# Altium integrated library Altium_WCAP-CSGP (rev19a).IntLib: 938 symbols (part 12 of 16)
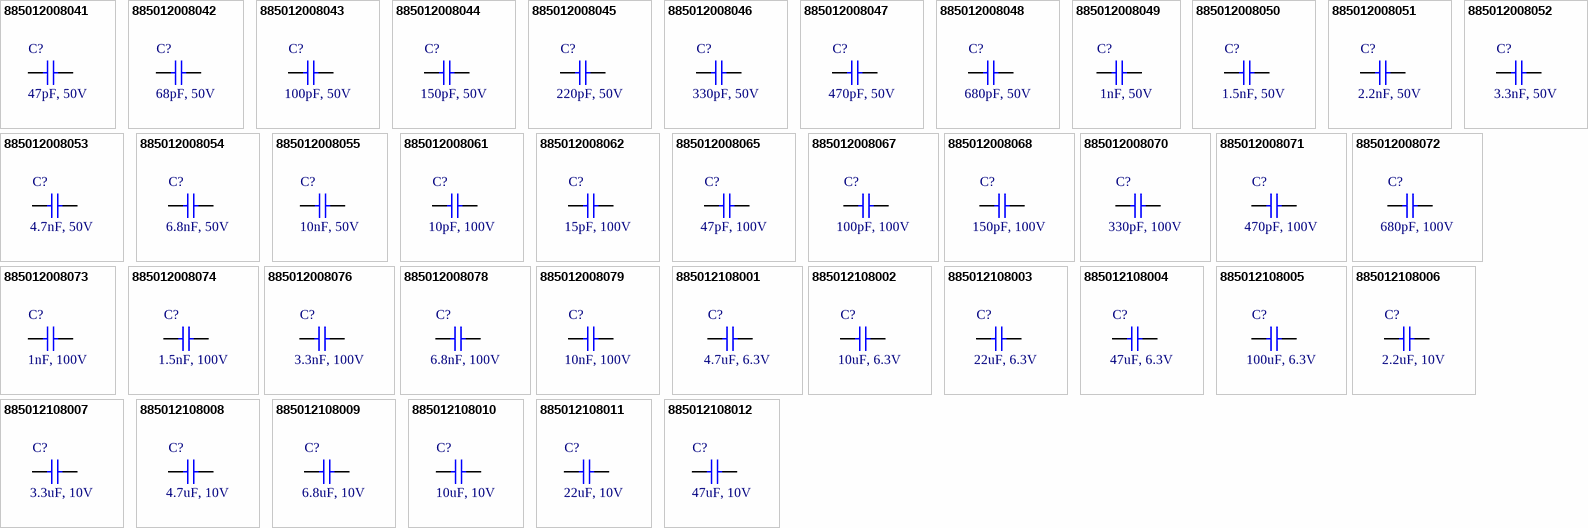
[diagram p38: symbols 885012008041 to 885012108012]

## 885012108007
designator C?, comment 3.3uF, 10V
WCAP-CSGP General Purpose Ceramic Capacitors, size 1206, 3.3uF, +/-20%, 10VDC; Part Number: 885012108007; Isolation Resistance: >=0.2GOhm; Ceramic Type: X5R; Technical Reference: X5R1206335M010DFCT10000; ComponentLink1Description: Manufacturer; ComponentLink1URL: http://www.we-online.de; ComponentLink2Description: Datasheet; ComponentLink2URL: https://katalog.we-online.com/pbs/datasheet/885012108007.pdf; Operating Temperature: -55 to +85degC; Packaging: Tape and Reel; Publisher: Wurth Elektronik; Rated Voltage: 10VDC; Published Date: August 2019; Capacitance Tolerance: +/-20%; Dissipation Factor: =<10%; Height: 1.6mm +0.30/-0.10mm; Mounting Technology: SMD; Size: 1206; Capacitance: 3.3uF
footprint WCAP-CSGP_1206_H=1.6mm
pins: 1, 2

## 885012108008
designator C?, comment 4.7uF, 10V
WCAP-CSGP General Purpose Ceramic Capacitors, size 1206, 4.7uF, +/-20%, 10VDC; Part Number: 885012108008; Isolation Resistance: >=0.02GOhm; Ceramic Type: X5R; Technical Reference: X5R1206475M010DFCT10000; ComponentLink1Description: Manufacturer; ComponentLink1URL: http://www.we-online.de; ComponentLink2Description: Datasheet; ComponentLink2URL: https://katalog.we-online.com/pbs/datasheet/885012108008.pdf; Operating Temperature: -55 to +85degC; Packaging: Tape and Reel; Publisher: Wurth Elektronik; Rated Voltage: 10VDC; Published Date: August 2019; Capacitance Tolerance: +/-20%; Dissipation Factor: =<10%; Height: 1.6mm +0.30/-0.10mm; Mounting Technology: SMD; Size: 1206; Capacitance: 4.7uF
footprint WCAP-CSGP_1206_H=1.6mm
pins: 1, 2

## 885012108009
designator C?, comment 6.8uF, 10V
WCAP-CSGP General Purpose Ceramic Capacitors, size 1206, 6.8uF, +/-20%, 10VDC; Part Number: 885012108009; Isolation Resistance: >=0.02GOhm; Ceramic Type: X5R; Technical Reference: X5R1206685M010DFCT10000; ComponentLink1Description: Manufacturer; ComponentLink1URL: http://www.we-online.de; ComponentLink2Description: Datasheet; ComponentLink2URL: https://katalog.we-online.com/pbs/datasheet/885012108009.pdf; Operating Temperature: -55 to +85degC; Packaging: Tape and Reel; Publisher: Wurth Elektronik; Rated Voltage: 10VDC; Published Date: August 2019; Capacitance Tolerance: +/-20%; Dissipation Factor: =<10%; Height: 1.6mm +0.30/-0.10mm; Mounting Technology: SMD; Size: 1206; Capacitance: 6.8uF
footprint WCAP-CSGP_1206_H=1.6mm
pins: 1, 2

## 885012108010
designator C?, comment 10uF, 10V
WCAP-CSGP General Purpose Ceramic Capacitors, size 1206, 10uF, +/-20%, 10VDC; Part Number: 885012108010; Isolation Resistance: >=0.01GOhm; Ceramic Type: X5R; Technical Reference: X5R1206106M010DFCT10000; ComponentLink1Description: Manufacturer; ComponentLink1URL: http://www.we-online.de; ComponentLink2Description: Datasheet; ComponentLink2URL: https://katalog.we-online.com/pbs/datasheet/885012108010.pdf; Operating Temperature: -55 to +85degC; Packaging: Tape and Reel; Publisher: Wurth Elektronik; Rated Voltage: 10VDC; Published Date: August 2019; Capacitance Tolerance: +/-20%; Dissipation Factor: =<10%; Height: 1.6mm +0.30/-0.10mm; Mounting Technology: SMD; Size: 1206; Capacitance: 10uF
footprint WCAP-CSGP_1206_H=1.6mm
pins: 1, 2

## 885012108011
designator C?, comment 22uF, 10V
WCAP-CSGP General Purpose Ceramic Capacitors, size 1206, 22uF, +/-20%, 10VDC; Part Number: 885012108011; Isolation Resistance: >=0.005GOhm; Ceramic Type: X5R; Technical Reference: X5R1206226M010DFCT10000; ComponentLink1Description: Manufacturer; ComponentLink1URL: http://www.we-online.de; ComponentLink2Description: Datasheet; ComponentLink2URL: https://katalog.we-online.com/pbs/datasheet/885012108011.pdf; Operating Temperature: -55 to +85degC; Packaging: Tape and Reel; Publisher: Wurth Elektronik; Rated Voltage: 10VDC; Published Date: August 2019; Capacitance Tolerance: +/-20%; Dissipation Factor: =<10%; Height: 1.6mm +0.30/-0.10mm; Mounting Technology: SMD; Size: 1206; Capacitance: 22uF
footprint WCAP-CSGP_1206_H=1.6mm
pins: 1, 2

## 885012108012
designator C?, comment 47uF, 10V
WCAP-CSGP General Purpose Ceramic Capacitors, size 1206, 47uF, +/-20%, 10VDC; Part Number: 885012108012; Isolation Resistance: >=0.002GOhm; Ceramic Type: X5R; Technical Reference: X5R1206476M010DFCT10000; ComponentLink1Description: Manufacturer; ComponentLink1URL: http://www.we-online.de; ComponentLink2Description: Datasheet; ComponentLink2URL: https://katalog.we-online.com/pbs/datasheet/885012108012.pdf; Operating Temperature: -55 to +85degC; Packaging: Tape and Reel; Publisher: Wurth Elektronik; Rated Voltage: 10VDC; Published Date: August 2019; Capacitance Tolerance: +/-20%; Dissipation Factor: =<10%; Height: 1.6mm +/-0.20mm; Mounting Technology: SMD; Size: 1206; Capacitance: 47uF
footprint WCAP-CSGP_1206_H=1.6mm
pins: 1, 2

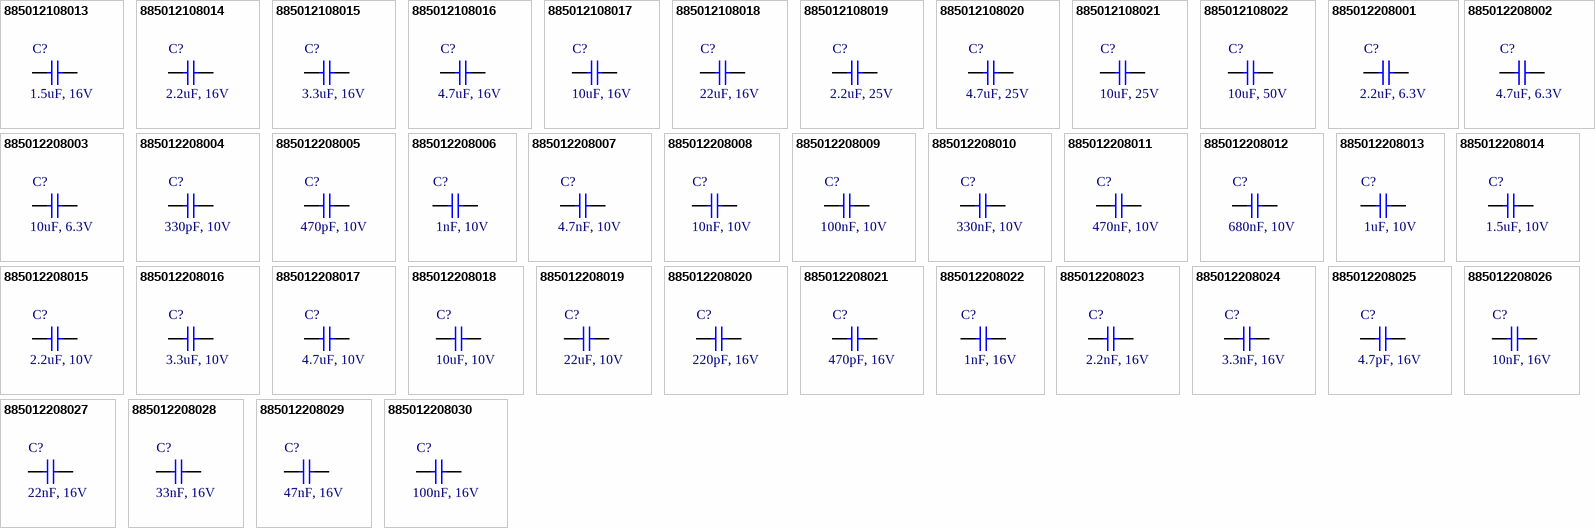
[diagram p19: symbols 885012108013 to 885012208030]

## 885012108013
designator C?, comment 1.5uF, 16V
WCAP-CSGP General Purpose Ceramic Capacitors, size 1206, 1.5uF, +/-20%, 16VDC; Part Number: 885012108013; Isolation Resistance: >=0.3GOhm; Ceramic Type: X5R; Technical Reference: X5R1206155M016DFCT10000; ComponentLink1Description: Manufacturer; ComponentLink1URL: http://www.we-online.de; ComponentLink2Description: Datasheet; ComponentLink2URL: https://katalog.we-online.com/pbs/datasheet/885012108013.pdf; Operating Temperature: -55 to +85degC; Packaging: Tape and Reel; Publisher: Wurth Elektronik; Rated Voltage: 16VDC; Published Date: August 2019; Capacitance Tolerance: +/-20%; Dissipation Factor: =<3.5%; Height: 1.15mm +/-0.15mm; Mounting Technology: SMD; Size: 1206; Capacitance: 1.5uF
footprint WCAP-CSGP_1206_H=1.15mm
pins: 1, 2

## 885012108014
designator C?, comment 2.2uF, 16V
WCAP-CSGP General Purpose Ceramic Capacitors, size 1206, 2.2uF, +/-20%, 16VDC; Part Number: 885012108014; Isolation Resistance: >=0.2GOhm; Ceramic Type: X5R; Technical Reference: X5R1206225M016DFCT10000; ComponentLink1Description: Manufacturer; ComponentLink1URL: http://www.we-online.de; ComponentLink2Description: Datasheet; ComponentLink2URL: https://katalog.we-online.com/pbs/datasheet/885012108014.pdf; Operating Temperature: -55 to +85degC; Packaging: Tape and Reel; Publisher: Wurth Elektronik; Rated Voltage: 16VDC; Published Date: August 2019; Capacitance Tolerance: +/-20%; Dissipation Factor: =<5%; Height: 1.15mm +/-0.15mm; Mounting Technology: SMD; Size: 1206; Capacitance: 2.2uF
footprint WCAP-CSGP_1206_H=1.15mm
pins: 1, 2

## 885012108015
designator C?, comment 3.3uF, 16V
WCAP-CSGP General Purpose Ceramic Capacitors, size 1206, 3.3uF, +/-20%, 16VDC; Part Number: 885012108015; Isolation Resistance: >=0.2GOhm; Ceramic Type: X5R; Technical Reference: X5R1206335M016DFCT10000; ComponentLink1Description: Manufacturer; ComponentLink1URL: http://www.we-online.de; ComponentLink2Description: Datasheet; ComponentLink2URL: https://katalog.we-online.com/pbs/datasheet/885012108015.pdf; Operating Temperature: -55 to +85degC; Packaging: Tape and Reel; Publisher: Wurth Elektronik; Rated Voltage: 16VDC; Published Date: August 2019; Capacitance Tolerance: +/-20%; Dissipation Factor: =<5%; Height: 1.6mm +0.30/-0.10mm; Mounting Technology: SMD; Size: 1206; Capacitance: 3.3uF
footprint WCAP-CSGP_1206_H=1.6mm
pins: 1, 2

## 885012108016
designator C?, comment 4.7uF, 16V
WCAP-CSGP General Purpose Ceramic Capacitors, size 1206, 4.7uF, +/-20%, 16VDC; Part Number: 885012108016; Isolation Resistance: >=0.1GOhm; Ceramic Type: X5R; Technical Reference: X5R1206475M016DFCT10000; ComponentLink1Description: Manufacturer; ComponentLink1URL: http://www.we-online.de; ComponentLink2Description: Datasheet; ComponentLink2URL: https://katalog.we-online.com/pbs/datasheet/885012108016.pdf; Operating Temperature: -55 to +85degC; Packaging: Tape and Reel; Publisher: Wurth Elektronik; Rated Voltage: 16VDC; Published Date: August 2019; Capacitance Tolerance: +/-20%; Dissipation Factor: =<10%; Height: 1.6mm +0.30/-0.10mm; Mounting Technology: SMD; Size: 1206; Capacitance: 4.7uF
footprint WCAP-CSGP_1206_H=1.6mm
pins: 1, 2

## 885012108017
designator C?, comment 10uF, 16V
WCAP-CSGP General Purpose Ceramic Capacitors, size 1206, 10uF, +/-20%, 16VDC; Part Number: 885012108017; Isolation Resistance: >=0.01GOhm; Ceramic Type: X5R; Technical Reference: X5R1206106M016DFCT10000; ComponentLink1Description: Manufacturer; ComponentLink1URL: http://www.we-online.de; ComponentLink2Description: Datasheet; ComponentLink2URL: https://katalog.we-online.com/pbs/datasheet/885012108017.pdf; Operating Temperature: -55 to +85degC; Packaging: Tape and Reel; Publisher: Wurth Elektronik; Rated Voltage: 16VDC; Published Date: August 2019; Capacitance Tolerance: +/-20%; Dissipation Factor: =<10%; Height: 1.6mm +0.30/-0.10mm; Mounting Technology: SMD; Size: 1206; Capacitance: 10uF
footprint WCAP-CSGP_1206_H=1.6mm
pins: 1, 2

## 885012108018
designator C?, comment 22uF, 16V
WCAP-CSGP General Purpose Ceramic Capacitors, size 1206, 22uF, +/-20%, 16VDC; Part Number: 885012108018; Isolation Resistance: >=0.005GOhm; Ceramic Type: X5R; Technical Reference: X5R1206226M016DFCT10000; ComponentLink1Description: Manufacturer; ComponentLink1URL: http://www.we-online.de; ComponentLink2Description: Datasheet; ComponentLink2URL: https://katalog.we-online.com/pbs/datasheet/885012108018.pdf; Operating Temperature: -55 to +85degC; Packaging: Tape and Reel; Publisher: Wurth Elektronik; Rated Voltage: 16VDC; Published Date: August 2019; Capacitance Tolerance: +/-20%; Dissipation Factor: =<10%; Height: 1.6mm +/-0.20mm; Mounting Technology: SMD; Size: 1206; Capacitance: 22uF
footprint WCAP-CSGP_1206_H=1.6mm
pins: 1, 2

## 885012108019
designator C?, comment 2.2uF, 25V
WCAP-CSGP General Purpose Ceramic Capacitors, size 1206, 2.2uF, +/-20%, 25VDC; Part Number: 885012108019; Isolation Resistance: >=0.2GOhm; Ceramic Type: X5R; Technical Reference: X5R1206225M025DFCT10000; ComponentLink1Description: Manufacturer; ComponentLink1URL: http://www.we-online.de; ComponentLink2Description: Datasheet; ComponentLink2URL: https://katalog.we-online.com/pbs/datasheet/885012108019.pdf; Operating Temperature: -55 to +85degC; Packaging: Tape and Reel; Publisher: Wurth Elektronik; Rated Voltage: 25VDC; Published Date: August 2019; Capacitance Tolerance: +/-20%; Dissipation Factor: =<3.5%; Height: 1.6mm +0.30/-0.10mm; Mounting Technology: SMD; Size: 1206; Capacitance: 2.2uF
footprint WCAP-CSGP_1206_H=1.6mm
pins: 1, 2

## 885012108020
designator C?, comment 4.7uF, 25V
WCAP-CSGP General Purpose Ceramic Capacitors, size 1206, 4.7uF, +/-20%, 25VDC; Part Number: 885012108020; Isolation Resistance: >=0.1GOhm; Ceramic Type: X5R; Technical Reference: X5R1206475M025DFCT10000; ComponentLink1Description: Manufacturer; ComponentLink1URL: http://www.we-online.de; ComponentLink2Description: Datasheet; ComponentLink2URL: https://katalog.we-online.com/pbs/datasheet/885012108020.pdf; Operating Temperature: -55 to +85degC; Packaging: Tape and Reel; Publisher: Wurth Elektronik; Rated Voltage: 25VDC; Published Date: August 2019; Capacitance Tolerance: +/-20%; Dissipation Factor: =<7%; Height: 1.6mm +0.30/-0.10mm; Mounting Technology: SMD; Size: 1206; Capacitance: 4.7uF
footprint WCAP-CSGP_1206_H=1.6mm
pins: 1, 2

## 885012108021
designator C?, comment 10uF, 25V
WCAP-CSGP General Purpose Ceramic Capacitors, size 1206, 10uF, +/-20%, 25VDC; Part Number: 885012108021; Isolation Resistance: >=0.01GOhm; Ceramic Type: X5R; Technical Reference: X5R1206106M025DFCT10000; ComponentLink1Description: Manufacturer; ComponentLink1URL: http://www.we-online.de; ComponentLink2Description: Datasheet; ComponentLink2URL: https://katalog.we-online.com/pbs/datasheet/885012108021.pdf; Operating Temperature: -55 to +85degC; Packaging: Tape and Reel; Publisher: Wurth Elektronik; Rated Voltage: 25VDC; Published Date: August 2019; Capacitance Tolerance: +/-20%; Dissipation Factor: =<10%; Height: 1.6mm +0.30/-0.10 mm; Mounting Technology: SMD; Size: 1206; Capacitance: 10uF
footprint WCAP-CSGP_1206_H=1.6mm
pins: 1, 2

## 885012108022
designator C?, comment 10uF, 50V
WCAP-CSGP General Purpose Ceramic Capacitors, size 1206, 10uF, +/-10%, 50VDC; Part Number: 885012108022; Isolation Resistance: >=0.005GOhm; Ceramic Type: X5R; Technical Reference: X5R1206106K050DFCT10000; ComponentLink1Description: Manufacturer; ComponentLink1URL: http://www.we-online.de; ComponentLink2Description: Datasheet; ComponentLink2URL: https://katalog.we-online.com/pbs/datasheet/885012108022.pdf; Operating Temperature: -55 to +85degC; Packaging: Tape and Reel; Publisher: Wurth Elektronik; Rated Voltage: 50VDC; Published Date: August 2019; Capacitance Tolerance: +/-10%; Dissipation Factor: =<10%; Height: 1.6mm +/-0.20mm; Mounting Technology: SMD; Size: 1206; Capacitance: 10uF
footprint WCAP-CSGP_1206_H=1.6mm
pins: 1, 2

## 885012208001
designator C?, comment 2.2uF, 6.3V
WCAP-CSGP General Purpose Ceramic Capacitors, size 1206, 2.2uF, +/-10%, 6.3VDC; Part Number: 885012208001; Isolation Resistance: >=0.05GOhm; Ceramic Type: X7R; Technical Reference: X7R1206225K6R3DFCT10000; ComponentLink1Description: Manufacturer; ComponentLink1URL: http://www.we-online.de; ComponentLink2Description: Datasheet; ComponentLink2URL: https://katalog.we-online.com/pbs/datasheet/885012208001.pdf; Operating Temperature: -55 to +125degC; Packaging: Tape and Reel; Publisher: Wurth Elektronik; Rated Voltage: 6.3VDC; Published Date: August 2019; Capacitance Tolerance: +/-10%; Dissipation Factor: =<10%; Height: 1.15mm +/-0.15mm; Mounting Technology: SMD; Size: 1206; Capacitance: 2.2uF
footprint WCAP-CSGP_1206_H=1.15mm
pins: 1, 2

## 885012208002
designator C?, comment 4.7uF, 6.3V
WCAP-CSGP General Purpose Ceramic Capacitors, size 1206, 4.7uF, +/-10%, 6.3VDC; Part Number: 885012208002; Isolation Resistance: >=0.02GOhm; Ceramic Type: X7R; Technical Reference: X7R1206475K6R3DFCT10000; ComponentLink1Description: Manufacturer; ComponentLink1URL: http://www.we-online.de; ComponentLink2Description: Datasheet; ComponentLink2URL: https://katalog.we-online.com/pbs/datasheet/885012208002.pdf; Operating Temperature: -55 to +125degC; Packaging: Tape and Reel; Publisher: Wurth Elektronik; Rated Voltage: 6.3VDC; Published Date: August 2019; Capacitance Tolerance: +/-10%; Dissipation Factor: =<10%; Height: 1.6mm +0.30/-0.10mm; Mounting Technology: SMD; Size: 1206; Capacitance: 4.7uF
footprint WCAP-CSGP_1206_H=1.6mm
pins: 1, 2

## 885012208003
designator C?, comment 10uF, 6.3V
WCAP-CSGP General Purpose Ceramic Capacitors, size 1206, 10uF, +/-10%, 6.3VDC; Part Number: 885012208003; Isolation Resistance: >=0.005GOhm; Ceramic Type: X7R; Technical Reference: X7R1206106K6R3DFCT10000; ComponentLink1Description: Manufacturer; ComponentLink1URL: http://www.we-online.de; ComponentLink2Description: Datasheet; ComponentLink2URL: https://katalog.we-online.com/pbs/datasheet/885012208003.pdf; Operating Temperature: -55 to +125degC; Packaging: Tape and Reel; Publisher: Wurth Elektronik; Rated Voltage: 6.3VDC; Published Date: August 2019; Capacitance Tolerance: +/-10%; Dissipation Factor: =<10%; Height: 1.6mm +0.30/-0.10mm; Mounting Technology: SMD; Size: 1206; Capacitance: 10uF
footprint WCAP-CSGP_1206_H=1.6mm
pins: 1, 2

## 885012208004
designator C?, comment 330pF, 10V
WCAP-CSGP General Purpose Ceramic Capacitors, size 1206, 330pF, +/-10%, 10VDC; Part Number: 885012208004; Isolation Resistance: >=10GOhm; Ceramic Type: X7R; Technical Reference: X7R1206331K010DFCT10000; ComponentLink1Description: Manufacturer; ComponentLink1URL: http://www.we-online.de; ComponentLink2Description: Datasheet; ComponentLink2URL: https://katalog.we-online.com/pbs/datasheet/885012208004.pdf; Operating Temperature: -55 to +125degC; Packaging: Tape and Reel; Publisher: Wurth Elektronik; Rated Voltage: 10VDC; Published Date: August 2019; Capacitance Tolerance: +/-10%; Dissipation Factor: =<5%; Height: 0.8mm +/-0.10mm; Mounting Technology: SMD; Size: 1206; Capacitance: 330pF
footprint WCAP-CSGP_1206_H=0.8mm
pins: 1, 2

## 885012208005
designator C?, comment 470pF, 10V
WCAP-CSGP General Purpose Ceramic Capacitors, size 1206, 470pF, +/-10%, 10VDC; Part Number: 885012208005; Isolation Resistance: >=10GOhm; Ceramic Type: X7R; Technical Reference: X7R1206471K010DFCT10000; ComponentLink1Description: Manufacturer; ComponentLink1URL: http://www.we-online.de; ComponentLink2Description: Datasheet; ComponentLink2URL: https://katalog.we-online.com/pbs/datasheet/885012208005.pdf; Operating Temperature: -55 to +125degC; Packaging: Tape and Reel; Publisher: Wurth Elektronik; Rated Voltage: 10VDC; Published Date: August 2019; Capacitance Tolerance: +/-10%; Dissipation Factor: =<5%; Height: 0.8mm +/-0.10mm; Mounting Technology: SMD; Size: 1206; Capacitance: 470pF
footprint WCAP-CSGP_1206_H=0.8mm
pins: 1, 2

## 885012208006
designator C?, comment 1nF, 10V
WCAP-CSGP General Purpose Ceramic Capacitors, size 1206, 1nF, +/-10%, 10VDC; Part Number: 885012208006; Isolation Resistance: >=10GOhm; Ceramic Type: X7R; Technical Reference: X7R1206102K010DFCT10000; ComponentLink1Description: Manufacturer; ComponentLink1URL: http://www.we-online.de; ComponentLink2Description: Datasheet; ComponentLink2URL: https://katalog.we-online.com/pbs/datasheet/885012208006.pdf; Operating Temperature: -55 to +125degC; Packaging: Tape and Reel; Publisher: Wurth Elektronik; Rated Voltage: 10VDC; Published Date: August 2019; Capacitance Tolerance: +/-10%; Dissipation Factor: =<5%; Height: 0.8mm +/-0.10mm; Mounting Technology: SMD; Size: 1206; Capacitance: 1nF
footprint WCAP-CSGP_1206_H=0.8mm
pins: 1, 2

## 885012208007
designator C?, comment 4.7nF, 10V
WCAP-CSGP General Purpose Ceramic Capacitors, size 1206, 4.7nF, +/-10%, 10VDC; Part Number: 885012208007; Isolation Resistance: >=10GOhm; Ceramic Type: X7R; Technical Reference: X7R1206472K010DFCT10000; ComponentLink1Description: Manufacturer; ComponentLink1URL: http://www.we-online.de; ComponentLink2Description: Datasheet; ComponentLink2URL: https://katalog.we-online.com/pbs/datasheet/885012208007.pdf; Operating Temperature: -55 to +125degC; Packaging: Tape and Reel; Publisher: Wurth Elektronik; Rated Voltage: 10VDC; Published Date: August 2019; Capacitance Tolerance: +/-10%; Dissipation Factor: =<5%; Height: 0.8mm +/-0.10mm; Mounting Technology: SMD; Size: 1206; Capacitance: 4.7nF
footprint WCAP-CSGP_1206_H=0.8mm
pins: 1, 2

## 885012208008
designator C?, comment 10nF, 10V
WCAP-CSGP General Purpose Ceramic Capacitors, size 1206, 10nF, +/-10%, 10VDC; Part Number: 885012208008; Isolation Resistance: >=10GOhm; Ceramic Type: X7R; Technical Reference: X7R1206103K010DFCT10000; ComponentLink1Description: Manufacturer; ComponentLink1URL: http://www.we-online.de; ComponentLink2Description: Datasheet; ComponentLink2URL: https://katalog.we-online.com/pbs/datasheet/885012208008.pdf; Operating Temperature: -55 to +125degC; Packaging: Tape and Reel; Publisher: Wurth Elektronik; Rated Voltage: 10VDC; Published Date: August 2019; Capacitance Tolerance: +/-10%; Dissipation Factor: =<5%; Height: 0.8mm +/-0.10mm; Mounting Technology: SMD; Size: 1206; Capacitance: 10nF
footprint WCAP-CSGP_1206_H=0.8mm
pins: 1, 2

## 885012208009
designator C?, comment 100nF, 10V
WCAP-CSGP General Purpose Ceramic Capacitors, size 1206, 100nF, +/-10%, 10VDC; Part Number: 885012208009; Isolation Resistance: >=5GOhm; Ceramic Type: X7R; Technical Reference: X7R1206104K010DFCT10000; ComponentLink1Description: Manufacturer; ComponentLink1URL: http://www.we-online.de; ComponentLink2Description: Datasheet; ComponentLink2URL: https://katalog.we-online.com/pbs/datasheet/885012208009.pdf; Operating Temperature: -55 to +125degC; Packaging: Tape and Reel; Publisher: Wurth Elektronik; Rated Voltage: 10VDC; Published Date: August 2019; Capacitance Tolerance: +/-10%; Dissipation Factor: =<5%; Height: 0.8mm +/-0.10mm; Mounting Technology: SMD; Size: 1206; Capacitance: 100nF
footprint WCAP-CSGP_1206_H=0.8mm
pins: 1, 2

## 885012208010
designator C?, comment 330nF, 10V
WCAP-CSGP General Purpose Ceramic Capacitors, size 1206, 330nF, +/-10%, 10VDC; Part Number: 885012208010; Isolation Resistance: >=1.5GOhm; Ceramic Type: X7R; Technical Reference: X7R1206334K010DFCT10000; ComponentLink1Description: Manufacturer; ComponentLink1URL: http://www.we-online.de; ComponentLink2Description: Datasheet; ComponentLink2URL: https://katalog.we-online.com/pbs/datasheet/885012208010.pdf; Operating Temperature: -55 to +125degC; Packaging: Tape and Reel; Publisher: Wurth Elektronik; Rated Voltage: 10VDC; Published Date: August 2019; Capacitance Tolerance: +/-10%; Dissipation Factor: =<5%; Height: 0.95mm +/-0.10mm; Mounting Technology: SMD; Size: 1206; Capacitance: 330nF
footprint WCAP-CSGP_1206_H=0.95mm
pins: 1, 2

## 885012208011
designator C?, comment 470nF, 10V
WCAP-CSGP General Purpose Ceramic Capacitors, size 1206, 470nF, +/-10%, 10VDC; Part Number: 885012208011; Isolation Resistance: >=1.1GOhm; Ceramic Type: X7R; Technical Reference: X7R1206474K010DFCT10000; ComponentLink1Description: Manufacturer; ComponentLink1URL: http://www.we-online.de; ComponentLink2Description: Datasheet; ComponentLink2URL: https://katalog.we-online.com/pbs/datasheet/885012208011.pdf; Operating Temperature: -55 to +125degC; Packaging: Tape and Reel; Publisher: Wurth Elektronik; Rated Voltage: 10VDC; Published Date: August 2019; Capacitance Tolerance: +/-10%; Dissipation Factor: =<5%; Height: 1.15mm +/-0.15mm; Mounting Technology: SMD; Size: 1206; Capacitance: 470nF
footprint WCAP-CSGP_1206_H=1.15mm
pins: 1, 2

## 885012208012
designator C?, comment 680nF, 10V
WCAP-CSGP General Purpose Ceramic Capacitors, size 1206, 680nF, +/-10%, 10VDC; Part Number: 885012208012; Isolation Resistance: >=0.7GOhm; Ceramic Type: X7R; Technical Reference: X7R1206684K010DFCT10000; ComponentLink1Description: Manufacturer; ComponentLink1URL: http://www.we-online.de; ComponentLink2Description: Datasheet; ComponentLink2URL: https://katalog.we-online.com/pbs/datasheet/885012208012.pdf; Operating Temperature: -55 to +125degC; Packaging: Tape and Reel; Publisher: Wurth Elektronik; Rated Voltage: 10VDC; Published Date: August 2019; Capacitance Tolerance: +/-10%; Dissipation Factor: =<5%; Height: 1.15mm +/-0.15mm; Mounting Technology: SMD; Size: 1206; Capacitance: 680nF
footprint WCAP-CSGP_1206_H=1.15mm
pins: 1, 2

## 885012208013
designator C?, comment 1uF, 10V
WCAP-CSGP General Purpose Ceramic Capacitors, size 1206, 1uF, +/-10%, 10VDC; Part Number: 885012208013; Isolation Resistance: >=0.5GOhm; Ceramic Type: X7R; Technical Reference: X7R1206105K010DFCT10000; ComponentLink1Description: Manufacturer; ComponentLink1URL: http://www.we-online.de; ComponentLink2Description: Datasheet; ComponentLink2URL: https://katalog.we-online.com/pbs/datasheet/885012208013.pdf; Operating Temperature: -55 to +125degC; Packaging: Tape and Reel; Publisher: Wurth Elektronik; Rated Voltage: 10VDC; Published Date: August 2019; Capacitance Tolerance: +/-10%; Dissipation Factor: =<5%; Height: 1.15mm +/-0.15mm; Mounting Technology: SMD; Size: 1206; Capacitance: 1uF
footprint WCAP-CSGP_1206_H=1.15mm
pins: 1, 2

## 885012208014
designator C?, comment 1.5uF, 10V
WCAP-CSGP General Purpose Ceramic Capacitors, size 1206, 1.5uF, +/-10%, 10VDC; Part Number: 885012208014; Isolation Resistance: >=0.3GOhm; Ceramic Type: X7R; Technical Reference: X7R1206155K010DFCT10000; ComponentLink1Description: Manufacturer; ComponentLink1URL: http://www.we-online.de; ComponentLink2Description: Datasheet; ComponentLink2URL: https://katalog.we-online.com/pbs/datasheet/885012208014.pdf; Operating Temperature: -55 to +125degC; Packaging: Tape and Reel; Publisher: Wurth Elektronik; Rated Voltage: 10VDC; Published Date: August 2019; Capacitance Tolerance: +/-10%; Dissipation Factor: =<5%; Height: 1.15mm +/-0.15mm; Mounting Technology: SMD; Size: 1206; Capacitance: 1.5uF
footprint WCAP-CSGP_1206_H=1.15mm
pins: 1, 2

## 885012208015
designator C?, comment 2.2uF, 10V
WCAP-CSGP General Purpose Ceramic Capacitors, size 1206, 2.2uF, +/-10%, 10VDC; Part Number: 885012208015; Isolation Resistance: >=0.2GOhm; Ceramic Type: X7R; Technical Reference: X7R1206225K010DFCT10000; ComponentLink1Description: Manufacturer; ComponentLink1URL: http://www.we-online.de; ComponentLink2Description: Datasheet; ComponentLink2URL: https://katalog.we-online.com/pbs/datasheet/885012208015.pdf; Operating Temperature: -55 to +125degC; Packaging: Tape and Reel; Publisher: Wurth Elektronik; Rated Voltage: 10VDC; Published Date: August 2019; Capacitance Tolerance: +/-10%; Dissipation Factor: =<10%; Height: 1.15mm +/-0.15mm; Mounting Technology: SMD; Size: 1206; Capacitance: 2.2uF
footprint WCAP-CSGP_1206_H=1.15mm
pins: 1, 2

## 885012208016
designator C?, comment 3.3uF, 10V
WCAP-CSGP General Purpose Ceramic Capacitors, size 1206, 3.3uF, +/-10%, 10VDC; Part Number: 885012208016; Isolation Resistance: >=0.2GOhm; Ceramic Type: X7R; Technical Reference: X7R1206335K010DFCT10000; ComponentLink1Description: Manufacturer; ComponentLink1URL: http://www.we-online.de; ComponentLink2Description: Datasheet; ComponentLink2URL: https://katalog.we-online.com/pbs/datasheet/885012208016.pdf; Operating Temperature: -55 to +125degC; Packaging: Tape and Reel; Publisher: Wurth Elektronik; Rated Voltage: 10VDC; Published Date: August 2019; Capacitance Tolerance: +/-10%; Dissipation Factor: =<10%; Height: 1.6mm +0.30/-0.10mm; Mounting Technology: SMD; Size: 1206; Capacitance: 3.3uF
footprint WCAP-CSGP_1206_H=1.6mm
pins: 1, 2

## 885012208017
designator C?, comment 4.7uF, 10V
WCAP-CSGP General Purpose Ceramic Capacitors, size 1206, 4.7uF, +/-10%, 10VDC; Part Number: 885012208017; Isolation Resistance: >=0.02GOhm; Ceramic Type: X7R; Technical Reference: X7R1206475K010DFCT10000; ComponentLink1Description: Manufacturer; ComponentLink1URL: http://www.we-online.de; ComponentLink2Description: Datasheet; ComponentLink2URL: https://katalog.we-online.com/pbs/datasheet/885012208017.pdf; Operating Temperature: -55 to +125degC; Packaging: Tape and Reel; Publisher: Wurth Elektronik; Rated Voltage: 10VDC; Published Date: August 2019; Capacitance Tolerance: +/-10%; Dissipation Factor: =<10%; Height: 1.6mm +0.30/-0.10mm; Mounting Technology: SMD; Size: 1206; Capacitance: 4.7uF
footprint WCAP-CSGP_1206_H=1.6mm
pins: 1, 2

## 885012208018
designator C?, comment 10uF, 10V
WCAP-CSGP General Purpose Ceramic Capacitors, size 1206, 10uF, +/-10%, 10VDC; Part Number: 885012208018; Isolation Resistance: >=0.01GOhm; Ceramic Type: X7R; Technical Reference: X7R1206106K010DFCT10000; ComponentLink1Description: Manufacturer; ComponentLink1URL: http://www.we-online.de; ComponentLink2Description: Datasheet; ComponentLink2URL: https://katalog.we-online.com/pbs/datasheet/885012208018.pdf; Operating Temperature: -55 to +125degC; Packaging: Tape and Reel; Publisher: Wurth Elektronik; Rated Voltage: 10VDC; Published Date: August 2019; Capacitance Tolerance: +/-10%; Dissipation Factor: =<10%; Height: 1.6mm +0.30/-0.10mm; Mounting Technology: SMD; Size: 1206; Capacitance: 10uF
footprint WCAP-CSGP_1206_H=1.6mm
pins: 1, 2

## 885012208019
designator C?, comment 22uF, 10V
WCAP-CSGP General Purpose Ceramic Capacitors, size 1206, 22uF, +/-10%, 10VDC; Part Number: 885012208019; Isolation Resistance: >=0.005GOhm; Ceramic Type: X7R; Technical Reference: X7R1206226K010DFCT10000; ComponentLink1Description: Manufacturer; ComponentLink1URL: http://www.we-online.de; ComponentLink2Description: Datasheet; ComponentLink2URL: https://katalog.we-online.com/pbs/datasheet/885012208019.pdf; Operating Temperature: -55 to +125degC; Packaging: Tape and Reel; Publisher: Wurth Elektronik; Rated Voltage: 10VDC; Published Date: August 2019; Capacitance Tolerance: +/-10%; Dissipation Factor: =<10%; Height: 1.6mm +/-0.20mm; Mounting Technology: SMD; Size: 1206; Capacitance: 22uF
footprint WCAP-CSGP_1206_H=1.6mm
pins: 1, 2

## 885012208020
designator C?, comment 220pF, 16V
WCAP-CSGP General Purpose Ceramic Capacitors, size 1206, 220pF, +/-10%, 16VDC; Part Number: 885012208020; Isolation Resistance: >=10GOhm; Ceramic Type: X7R; Technical Reference: X7R1206221K016DFCT10000; ComponentLink1Description: Manufacturer; ComponentLink1URL: http://www.we-online.de; ComponentLink2Description: Datasheet; ComponentLink2URL: https://katalog.we-online.com/pbs/datasheet/885012208020.pdf; Operating Temperature: -55 to +125degC; Packaging: Tape and Reel; Publisher: Wurth Elektronik; Rated Voltage: 16VDC; Published Date: August 2019; Capacitance Tolerance: +/-10%; Dissipation Factor: =<3.5%; Height: 0.8mm +/-0.10mm; Mounting Technology: SMD; Size: 1206; Capacitance: 220pF
footprint WCAP-CSGP_1206_H=0.8mm
pins: 1, 2

## 885012208021
designator C?, comment 470pF, 16V
WCAP-CSGP General Purpose Ceramic Capacitors, size 1206, 470pF, +/-10%, 16VDC; Part Number: 885012208021; Isolation Resistance: >=10GOhm; Ceramic Type: X7R; Technical Reference: X7R1206471K016DFCT10000; ComponentLink1Description: Manufacturer; ComponentLink1URL: http://www.we-online.de; ComponentLink2Description: Datasheet; ComponentLink2URL: https://katalog.we-online.com/pbs/datasheet/885012208021.pdf; Operating Temperature: -55 to +125degC; Packaging: Tape and Reel; Publisher: Wurth Elektronik; Rated Voltage: 16VDC; Published Date: August 2019; Capacitance Tolerance: +/-10%; Dissipation Factor: =<3.5%; Height: 0.8mm +/-0.10mm; Mounting Technology: SMD; Size: 1206; Capacitance: 470pF
footprint WCAP-CSGP_1206_H=0.8mm
pins: 1, 2

## 885012208022
designator C?, comment 1nF, 16V
WCAP-CSGP General Purpose Ceramic Capacitors, size 1206, 1nF, +/-10%, 16VDC; Part Number: 885012208022; Isolation Resistance: >=10GOhm; Ceramic Type: X7R; Technical Reference: X7R1206102K016DFCT10000; ComponentLink1Description: Manufacturer; ComponentLink1URL: http://www.we-online.de; ComponentLink2Description: Datasheet; ComponentLink2URL: https://katalog.we-online.com/pbs/datasheet/885012208022.pdf; Operating Temperature: -55 to +125degC; Packaging: Tape and Reel; Publisher: Wurth Elektronik; Rated Voltage: 16VDC; Published Date: August 2019; Capacitance Tolerance: +/-10%; Dissipation Factor: =<3.5%; Height: 0.8mm +/-0.10mm; Mounting Technology: SMD; Size: 1206; Capacitance: 1nF
footprint WCAP-CSGP_1206_H=0.8mm
pins: 1, 2

## 885012208023
designator C?, comment 2.2nF, 16V
WCAP-CSGP General Purpose Ceramic Capacitors, size 1206, 2.2nF, +/-10%, 16VDC; Part Number: 885012208023; Isolation Resistance: >=10GOhm; Ceramic Type: X7R; Technical Reference: X7R1206222K016DFCT10000; ComponentLink1Description: Manufacturer; ComponentLink1URL: http://www.we-online.de; ComponentLink2Description: Datasheet; ComponentLink2URL: https://katalog.we-online.com/pbs/datasheet/885012208023.pdf; Operating Temperature: -55 to +125degC; Packaging: Tape and Reel; Publisher: Wurth Elektronik; Rated Voltage: 16VDC; Published Date: August 2019; Capacitance Tolerance: +/-10%; Dissipation Factor: =<3.5%; Height: 0.8mm +/-0.10mm; Mounting Technology: SMD; Size: 1206; Capacitance: 2.2nF
footprint WCAP-CSGP_1206_H=0.8mm
pins: 1, 2

## 885012208024
designator C?, comment 3.3nF, 16V
WCAP-CSGP General Purpose Ceramic Capacitors, size 1206, 3.3nF, +/-10%, 16VDC; Part Number: 885012208024; Isolation Resistance: >=10GOhm; Ceramic Type: X7R; Technical Reference: X7R1206332K016DFCT10000; ComponentLink1Description: Manufacturer; ComponentLink1URL: http://www.we-online.de; ComponentLink2Description: Datasheet; ComponentLink2URL: https://katalog.we-online.com/pbs/datasheet/885012208024.pdf; Operating Temperature: -55 to +125degC; Packaging: Tape and Reel; Publisher: Wurth Elektronik; Rated Voltage: 16VDC; Published Date: August 2019; Capacitance Tolerance: +/-10%; Dissipation Factor: =<3.5%; Height: 0.8mm +/-0.10mm; Mounting Technology: SMD; Size: 1206; Capacitance: 3.3nF
footprint WCAP-CSGP_1206_H=0.8mm
pins: 1, 2

## 885012208025
designator C?, comment 4.7pF, 16V
WCAP-CSGP General Purpose Ceramic Capacitors, size 1206, 4.7pF, +/-10%, 16VDC; Part Number: 885012208025; Isolation Resistance: >=10GOhm; Ceramic Type: X7R; Technical Reference: X7R1206472K016DFCT10000; ComponentLink1Description: Manufacturer; ComponentLink1URL: http://www.we-online.de; ComponentLink2Description: Datasheet; ComponentLink2URL: https://katalog.we-online.com/pbs/datasheet/885012208025.pdf; Operating Temperature: -55 to +125degC; Packaging: Tape and Reel; Publisher: Wurth Elektronik; Rated Voltage: 16VDC; Published Date: August 2019; Capacitance Tolerance: +/-10%; Dissipation Factor: =<3.5%; Height: 0.8mm +/-0.10mm; Mounting Technology: SMD; Size: 1206; Capacitance: 4.7pF
footprint WCAP-CSGP_1206_H=0.8mm
pins: 1, 2

## 885012208026
designator C?, comment 10nF, 16V
WCAP-CSGP General Purpose Ceramic Capacitors, size 1206, 10nF, +/-10%, 16VDC; Part Number: 885012208026; Isolation Resistance: >=10GOhm; Ceramic Type: X7R; Technical Reference: X7R1206103K016DFCT10000; ComponentLink1Description: Manufacturer; ComponentLink1URL: http://www.we-online.de; ComponentLink2Description: Datasheet; ComponentLink2URL: https://katalog.we-online.com/pbs/datasheet/885012208026.pdf; Operating Temperature: -55 to +125degC; Packaging: Tape and Reel; Publisher: Wurth Elektronik; Rated Voltage: 16VDC; Published Date: August 2019; Capacitance Tolerance: +/-10%; Dissipation Factor: =<3.5%; Height: 0.8mm +/-0.10mm; Mounting Technology: SMD; Size: 1206; Capacitance: 10nF
footprint WCAP-CSGP_1206_H=0.8mm
pins: 1, 2

## 885012208027
designator C?, comment 22nF, 16V
WCAP-CSGP General Purpose Ceramic Capacitors, size 1206, 22nF, +/-10%, 16VDC; Part Number: 885012208027; Isolation Resistance: >=10GOhm; Ceramic Type: X7R; Technical Reference: X7R1206223K016DFCT10000; ComponentLink1Description: Manufacturer; ComponentLink1URL: http://www.we-online.de; ComponentLink2Description: Datasheet; ComponentLink2URL: https://katalog.we-online.com/pbs/datasheet/885012208027.pdf; Operating Temperature: -55 to +125degC; Packaging: Tape and Reel; Publisher: Wurth Elektronik; Rated Voltage: 16VDC; Published Date: August 2019; Capacitance Tolerance: +/-10%; Dissipation Factor: =<3.5%; Height: 0.8mm +/-0.10mm; Mounting Technology: SMD; Size: 1206; Capacitance: 22nF
footprint WCAP-CSGP_1206_H=0.8mm
pins: 1, 2

## 885012208028
designator C?, comment 33nF, 16V
WCAP-CSGP General Purpose Ceramic Capacitors, size 1206, 33nF, +/-10%, 16VDC; Part Number: 885012208028; Isolation Resistance: >=10GOhm; Ceramic Type: X7R; Technical Reference: X7R1206333K016DFCT10000; ComponentLink1Description: Manufacturer; ComponentLink1URL: http://www.we-online.de; ComponentLink2Description: Datasheet; ComponentLink2URL: https://katalog.we-online.com/pbs/datasheet/885012208028.pdf; Operating Temperature: -55 to +125degC; Packaging: Tape and Reel; Publisher: Wurth Elektronik; Rated Voltage: 16VDC; Published Date: August 2019; Capacitance Tolerance: +/-10%; Dissipation Factor: =<3.5%; Height: 0.8mm +/-0.10mm; Mounting Technology: SMD; Size: 1206; Capacitance: 33nF
footprint WCAP-CSGP_1206_H=0.8mm
pins: 1, 2

## 885012208029
designator C?, comment 47nF, 16V
WCAP-CSGP General Purpose Ceramic Capacitors, size 1206, 47nF, +/-10%, 16VDC; Part Number: 885012208029; Isolation Resistance: >=10GOhm; Ceramic Type: X7R; Technical Reference: X7R1206473K016DFCT10000; ComponentLink1Description: Manufacturer; ComponentLink1URL: http://www.we-online.de; ComponentLink2Description: Datasheet; ComponentLink2URL: https://katalog.we-online.com/pbs/datasheet/885012208029.pdf; Operating Temperature: -55 to +125degC; Packaging: Tape and Reel; Publisher: Wurth Elektronik; Rated Voltage: 16VDC; Published Date: August 2019; Capacitance Tolerance: +/-10%; Dissipation Factor: =<3.5%; Height: 0.8mm +/-0.10mm; Mounting Technology: SMD; Size: 1206; Capacitance: 47nF
footprint WCAP-CSGP_1206_H=0.8mm
pins: 1, 2

## 885012208030
designator C?, comment 100nF, 16V
WCAP-CSGP General Purpose Ceramic Capacitors, size 1206, 100nF, +/-10%, 16VDC; Part Number: 885012208030; Isolation Resistance: >=5GOhm; Ceramic Type: X7R; Technical Reference: X7R1206104K016DFCT10000; ComponentLink1Description: Manufacturer; ComponentLink1URL: http://www.we-online.de; ComponentLink2Description: Datasheet; ComponentLink2URL: https://katalog.we-online.com/pbs/datasheet/885012208030.pdf; Operating Temperature: -55 to +125degC; Packaging: Tape and Reel; Publisher: Wurth Elektronik; Rated Voltage: 16VDC; Published Date: August 2019; Capacitance Tolerance: +/-10%; Dissipation Factor: =<3.5%; Height: 0.8mm +/-0.10mm; Mounting Technology: SMD; Size: 1206; Capacitance: 100nF
footprint WCAP-CSGP_1206_H=0.8mm
pins: 1, 2

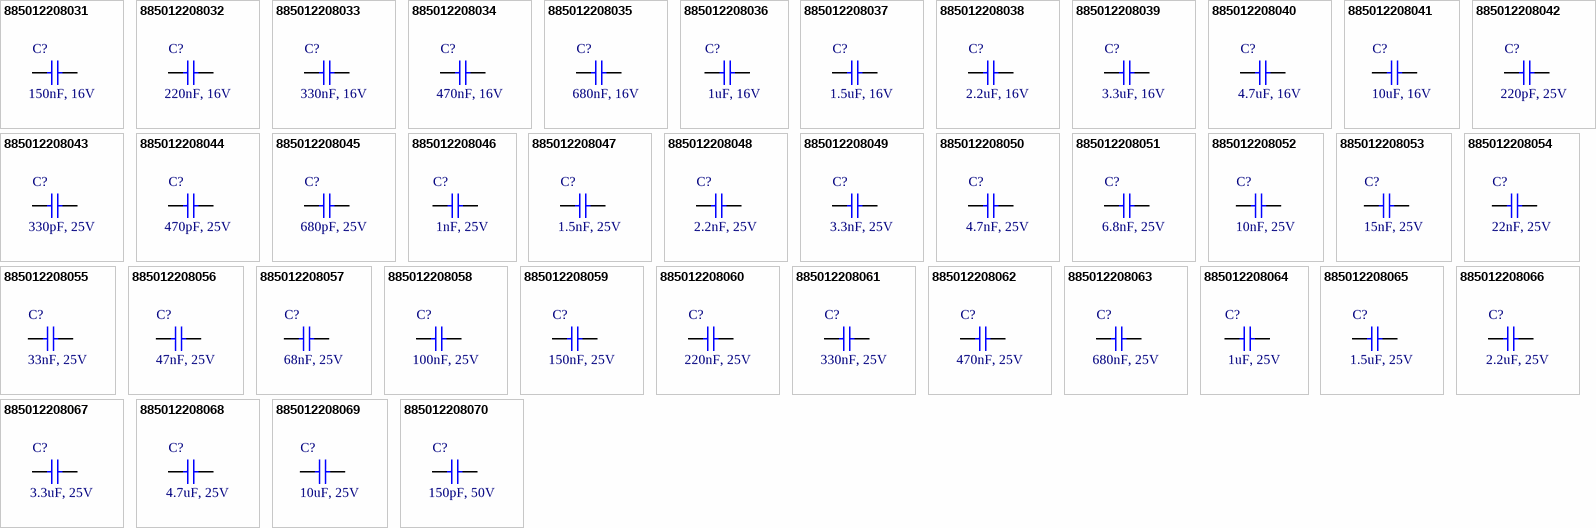
[diagram p20: symbols 885012208031 to 885012208070]

## 885012208031
designator C?, comment 150nF, 16V
WCAP-CSGP General Purpose Ceramic Capacitors, size 1206, 150nF, +/-10%, 16VDC; Part Number: 885012208031; Isolation Resistance: >=3.3GOhm; Ceramic Type: X7R; Technical Reference: X7R1206154K016DFCT10000; ComponentLink1Description: Manufacturer; ComponentLink1URL: http://www.we-online.de; ComponentLink2Description: Datasheet; ComponentLink2URL: https://katalog.we-online.com/pbs/datasheet/885012208031.pdf; Operating Temperature: -55 to +125degC; Packaging: Tape and Reel; Publisher: Wurth Elektronik; Rated Voltage: 16VDC; Published Date: August 2019; Capacitance Tolerance: +/-10%; Dissipation Factor: =<3.5%; Height: 0.95mm +/-0.10mm; Mounting Technology: SMD; Size: 1206; Capacitance: 150nF
footprint WCAP-CSGP_1206_H=0.95mm
pins: 1, 2

## 885012208032
designator C?, comment 220nF, 16V
WCAP-CSGP General Purpose Ceramic Capacitors, size 1206, 220nF, +/-10%, 16VDC; Part Number: 885012208032; Isolation Resistance: >=2.3GOhm; Ceramic Type: X7R; Technical Reference: X7R1206224K016DFCT10000; ComponentLink1Description: Manufacturer; ComponentLink1URL: http://www.we-online.de; ComponentLink2Description: Datasheet; ComponentLink2URL: https://katalog.we-online.com/pbs/datasheet/885012208032.pdf; Operating Temperature: -55 to +125degC; Packaging: Tape and Reel; Publisher: Wurth Elektronik; Rated Voltage: 16VDC; Published Date: August 2019; Capacitance Tolerance: +/-10%; Dissipation Factor: =<3.5%; Height: 0.95mm +/-0.10mm; Mounting Technology: SMD; Size: 1206; Capacitance: 220nF
footprint WCAP-CSGP_1206_H=0.95mm
pins: 1, 2

## 885012208033
designator C?, comment 330nF, 16V
WCAP-CSGP General Purpose Ceramic Capacitors, size 1206, 330nF, +/-10%, 16VDC; Part Number: 885012208033; Isolation Resistance: >=1.5GOhm; Ceramic Type: X7R; Technical Reference: X7R1206334K016DFCT10000; ComponentLink1Description: Manufacturer; ComponentLink1URL: http://www.we-online.de; ComponentLink2Description: Datasheet; ComponentLink2URL: https://katalog.we-online.com/pbs/datasheet/885012208033.pdf; Operating Temperature: -55 to +125degC; Packaging: Tape and Reel; Publisher: Wurth Elektronik; Rated Voltage: 16VDC; Published Date: August 2019; Capacitance Tolerance: +/-10%; Dissipation Factor: =<3.5%; Height: 0.95mm +/-0.10mm; Mounting Technology: SMD; Size: 1206; Capacitance: 330nF
footprint WCAP-CSGP_1206_H=0.95mm
pins: 1, 2

## 885012208034
designator C?, comment 470nF, 16V
WCAP-CSGP General Purpose Ceramic Capacitors, size 1206, 470nF, +/-10%, 16VDC; Part Number: 885012208034; Isolation Resistance: >=1.1GOhm; Ceramic Type: X7R; Technical Reference: X7R1206474K016DFCT10000; ComponentLink1Description: Manufacturer; ComponentLink1URL: http://www.we-online.de; ComponentLink2Description: Datasheet; ComponentLink2URL: https://katalog.we-online.com/pbs/datasheet/885012208034.pdf; Operating Temperature: -55 to +125degC; Packaging: Tape and Reel; Publisher: Wurth Elektronik; Rated Voltage: 16VDC; Published Date: August 2019; Capacitance Tolerance: +/-10%; Dissipation Factor: =<3.5%; Height: 1.15mm +/-0.15mm; Mounting Technology: SMD; Size: 1206; Capacitance: 470nF
footprint WCAP-CSGP_1206_H=1.15mm
pins: 1, 2

## 885012208035
designator C?, comment 680nF, 16V
WCAP-CSGP General Purpose Ceramic Capacitors, size 1206, 680nF, +/-10%, 16VDC; Part Number: 885012208035; Isolation Resistance: >=0.7GOhm; Ceramic Type: X7R; Technical Reference: X7R1206684K016DFCT10000; ComponentLink1Description: Manufacturer; ComponentLink1URL: http://www.we-online.de; ComponentLink2Description: Datasheet; ComponentLink2URL: https://katalog.we-online.com/pbs/datasheet/885012208035.pdf; Operating Temperature: -55 to +125degC; Packaging: Tape and Reel; Publisher: Wurth Elektronik; Rated Voltage: 16VDC; Published Date: August 2019; Capacitance Tolerance: +/-10%; Dissipation Factor: =<3.5%; Height: 1.15mm +/-0.15mm; Mounting Technology: SMD; Size: 1206; Capacitance: 680nF
footprint WCAP-CSGP_1206_H=1.15mm
pins: 1, 2

## 885012208036
designator C?, comment 1uF, 16V
WCAP-CSGP General Purpose Ceramic Capacitors, size 1206, 1uF, +/-10%, 16VDC; Part Number: 885012208036; Isolation Resistance: >=0.5GOhm; Ceramic Type: X7R; Technical Reference: X7R1206105K016DFCT10000; ComponentLink1Description: Manufacturer; ComponentLink1URL: http://www.we-online.de; ComponentLink2Description: Datasheet; ComponentLink2URL: https://katalog.we-online.com/pbs/datasheet/885012208036.pdf; Operating Temperature: -55 to +125degC; Packaging: Tape and Reel; Publisher: Wurth Elektronik; Rated Voltage: 16VDC; Published Date: August 2019; Capacitance Tolerance: +/-10%; Dissipation Factor: =<3.5%; Height: 1.15mm +/-0.15mm; Mounting Technology: SMD; Size: 1206; Capacitance: 1uF
footprint WCAP-CSGP_1206_H=1.15mm
pins: 1, 2

## 885012208037
designator C?, comment 1.5uF, 16V
WCAP-CSGP General Purpose Ceramic Capacitors, size 1206, 1.5uF, +/-10%, 16VDC; Part Number: 885012208037; Isolation Resistance: >=0.3GOhm; Ceramic Type: X7R; Technical Reference: X7R1206155K016DFCT10000; ComponentLink1Description: Manufacturer; ComponentLink1URL: http://www.we-online.de; ComponentLink2Description: Datasheet; ComponentLink2URL: https://katalog.we-online.com/pbs/datasheet/885012208037.pdf; Operating Temperature: -55 to +125degC; Packaging: Tape and Reel; Publisher: Wurth Elektronik; Rated Voltage: 16VDC; Published Date: August 2019; Capacitance Tolerance: +/-10%; Dissipation Factor: =<3.5%; Height: 1.15mm +/-0.15mm; Mounting Technology: SMD; Size: 1206; Capacitance: 1.5uF
footprint WCAP-CSGP_1206_H=1.15mm
pins: 1, 2

## 885012208038
designator C?, comment 2.2uF, 16V
WCAP-CSGP General Purpose Ceramic Capacitors, size 1206, 2.2uF, +/-10%, 16VDC; Part Number: 885012208038; Isolation Resistance: >=0.2GOhm; Ceramic Type: X7R; Technical Reference: X7R1206225K016DFCT10000; ComponentLink1Description: Manufacturer; ComponentLink1URL: http://www.we-online.de; ComponentLink2Description: Datasheet; ComponentLink2URL: https://katalog.we-online.com/pbs/datasheet/885012208038.pdf; Operating Temperature: -55 to +125degC; Packaging: Tape and Reel; Publisher: Wurth Elektronik; Rated Voltage: 16VDC; Published Date: August 2019; Capacitance Tolerance: +/-10%; Dissipation Factor: =<5%; Height: 1.15mm +/-0.15mm; Mounting Technology: SMD; Size: 1206; Capacitance: 2.2uF
footprint WCAP-CSGP_1206_H=1.15mm
pins: 1, 2

## 885012208039
designator C?, comment 3.3uF, 16V
WCAP-CSGP General Purpose Ceramic Capacitors, size 1206, 3.3uF, +/-10%, 16VDC; Part Number: 885012208039; Isolation Resistance: >=0.2GOhm; Ceramic Type: X7R; Technical Reference: X7R1206335K016DFCT10000; ComponentLink1Description: Manufacturer; ComponentLink1URL: http://www.we-online.de; ComponentLink2Description: Datasheet; ComponentLink2URL: https://katalog.we-online.com/pbs/datasheet/885012208039.pdf; Operating Temperature: -55 to +125degC; Packaging: Tape and Reel; Publisher: Wurth Elektronik; Rated Voltage: 16VDC; Published Date: August 2019; Capacitance Tolerance: +/-10%; Dissipation Factor: =<5%; Height: 1.6mm +0.30/-0.10mm; Mounting Technology: SMD; Size: 1206; Capacitance: 3.3uF
footprint WCAP-CSGP_1206_H=1.6mm
pins: 1, 2

## 885012208040
designator C?, comment 4.7uF, 16V
WCAP-CSGP General Purpose Ceramic Capacitors, size 1206, 4.7uF, +/-10%, 16VDC; Part Number: 885012208040; Isolation Resistance: >=0.1GOhm; Ceramic Type: X7R; Technical Reference: X7R1206475K016DFCT10000; ComponentLink1Description: Manufacturer; ComponentLink1URL: http://www.we-online.de; ComponentLink2Description: Datasheet; ComponentLink2URL: https://katalog.we-online.com/pbs/datasheet/885012208040.pdf; Operating Temperature: -55 to +125degC; Packaging: Tape and Reel; Publisher: Wurth Elektronik; Rated Voltage: 16VDC; Published Date: August 2019; Capacitance Tolerance: +/-10%; Dissipation Factor: =<10%; Height: 1.6mm +0.30/-0.10mm; Mounting Technology: SMD; Size: 1206; Capacitance: 4.7uF
footprint WCAP-CSGP_1206_H=1.6mm
pins: 1, 2

## 885012208041
designator C?, comment 10uF, 16V
WCAP-CSGP General Purpose Ceramic Capacitors, size 1206, 10uF, +/-10%, 16VDC; Part Number: 885012208041; Isolation Resistance: >=0.01GOhm; Ceramic Type: X7R; Technical Reference: X7R1206106K016DFCT10000; ComponentLink1Description: Manufacturer; ComponentLink1URL: http://www.we-online.de; ComponentLink2Description: Datasheet; ComponentLink2URL: https://katalog.we-online.com/pbs/datasheet/885012208041.pdf; Operating Temperature: -55 to +125degC; Packaging: Tape and Reel; Publisher: Wurth Elektronik; Rated Voltage: 16VDC; Published Date: August 2019; Capacitance Tolerance: +/-10%; Dissipation Factor: =<10%; Height: 1.6mm +/-0.20mm; Mounting Technology: SMD; Size: 1206; Capacitance: 10uF
footprint WCAP-CSGP_1206_H=1.6mm
pins: 1, 2

## 885012208042
designator C?, comment 220pF, 25V
WCAP-CSGP General Purpose Ceramic Capacitors, size 1206, 220pF, +/-10%, 25VDC; Part Number: 885012208042; Isolation Resistance: >=10GOhm; Ceramic Type: X7R; Technical Reference: X7R1206221K025DFCT10000; ComponentLink1Description: Manufacturer; ComponentLink1URL: http://www.we-online.de; ComponentLink2Description: Datasheet; ComponentLink2URL: https://katalog.we-online.com/pbs/datasheet/885012208042.pdf; Operating Temperature: -55 to +125degC; Packaging: Tape and Reel; Publisher: Wurth Elektronik; Rated Voltage: 25VDC; Published Date: August 2019; Capacitance Tolerance: +/-10%; Dissipation Factor: =<3.5%; Height: 0.8mm +/-0.10mm; Mounting Technology: SMD; Size: 1206; Capacitance: 220pF
footprint WCAP-CSGP_1206_H=0.8mm
pins: 1, 2

## 885012208043
designator C?, comment 330pF, 25V
WCAP-CSGP General Purpose Ceramic Capacitors, size 1206, 330pF, +/-10%, 25VDC; Part Number: 885012208043; Isolation Resistance: >=10GOhm; Ceramic Type: X7R; Technical Reference: X7R1206331K025DFCT10000; ComponentLink1Description: Manufacturer; ComponentLink1URL: http://www.we-online.de; ComponentLink2Description: Datasheet; ComponentLink2URL: https://katalog.we-online.com/pbs/datasheet/885012208043.pdf; Operating Temperature: -55 to +125degC; Packaging: Tape and Reel; Publisher: Wurth Elektronik; Rated Voltage: 25VDC; Published Date: August 2019; Capacitance Tolerance: +/-10%; Dissipation Factor: =<3.5%; Height: 0.8mm +/-0.10mm; Mounting Technology: SMD; Size: 1206; Capacitance: 330pF
footprint WCAP-CSGP_1206_H=0.8mm
pins: 1, 2

## 885012208044
designator C?, comment 470pF, 25V
WCAP-CSGP General Purpose Ceramic Capacitors, size 1206, 470pF, +/-10%, 25VDC; Part Number: 885012208044; Isolation Resistance: >=10GOhm; Ceramic Type: X7R; Technical Reference: X7R1206471K025DFCT10000; ComponentLink1Description: Manufacturer; ComponentLink1URL: http://www.we-online.de; ComponentLink2Description: Datasheet; ComponentLink2URL: https://katalog.we-online.com/pbs/datasheet/885012208044.pdf; Operating Temperature: -55 to +125degC; Packaging: Tape and Reel; Publisher: Wurth Elektronik; Rated Voltage: 25VDC; Published Date: August 2019; Capacitance Tolerance: +/-10%; Dissipation Factor: =<3.5%; Height: 0.8mm +/-0.10mm; Mounting Technology: SMD; Size: 1206; Capacitance: 470pF
footprint WCAP-CSGP_1206_H=0.8mm
pins: 1, 2

## 885012208045
designator C?, comment 680pF, 25V
WCAP-CSGP General Purpose Ceramic Capacitors, size 1206, 680pF, +/-10%, 25VDC; Part Number: 885012208045; Isolation Resistance: >=10GOhm; Ceramic Type: X7R; Technical Reference: X7R1206681K025DFCT10000; ComponentLink1Description: Manufacturer; ComponentLink1URL: http://www.we-online.de; ComponentLink2Description: Datasheet; ComponentLink2URL: https://katalog.we-online.com/pbs/datasheet/885012208045.pdf; Operating Temperature: -55 to +125degC; Packaging: Tape and Reel; Publisher: Wurth Elektronik; Rated Voltage: 25VDC; Published Date: August 2019; Capacitance Tolerance: +/-10%; Dissipation Factor: =<3.5%; Height: 0.8mm +/-0.10mm; Mounting Technology: SMD; Size: 1206; Capacitance: 680pF
footprint WCAP-CSGP_1206_H=0.8mm
pins: 1, 2

## 885012208046
designator C?, comment 1nF, 25V
WCAP-CSGP General Purpose Ceramic Capacitors, size 1206, 1nF, +/-10%, 25VDC; Part Number: 885012208046; Isolation Resistance: >=10GOhm; Ceramic Type: X7R; Technical Reference: X7R1206102K025DFCT10000; ComponentLink1Description: Manufacturer; ComponentLink1URL: http://www.we-online.de; ComponentLink2Description: Datasheet; ComponentLink2URL: https://katalog.we-online.com/pbs/datasheet/885012208046.pdf; Operating Temperature: -55 to +125degC; Packaging: Tape and Reel; Publisher: Wurth Elektronik; Rated Voltage: 25VDC; Published Date: August 2019; Capacitance Tolerance: +/-10%; Dissipation Factor: =<3.5%; Height: 0.8mm +/-0.10mm; Mounting Technology: SMD; Size: 1206; Capacitance: 1nF
footprint WCAP-CSGP_1206_H=0.8mm
pins: 1, 2

## 885012208047
designator C?, comment 1.5nF, 25V
WCAP-CSGP General Purpose Ceramic Capacitors, size 1206, 1.5nF, +/-10%, 25VDC; Part Number: 885012208047; Isolation Resistance: >=10GOhm; Ceramic Type: X7R; Technical Reference: X7R1206152K025DFCT10000; ComponentLink1Description: Manufacturer; ComponentLink1URL: http://www.we-online.de; ComponentLink2Description: Datasheet; ComponentLink2URL: https://katalog.we-online.com/pbs/datasheet/885012208047.pdf; Operating Temperature: -55 to +125degC; Packaging: Tape and Reel; Publisher: Wurth Elektronik; Rated Voltage: 25VDC; Published Date: August 2019; Capacitance Tolerance: +/-10%; Dissipation Factor: =<3.5%; Height: 0.8mm +/-0.10mm; Mounting Technology: SMD; Size: 1206; Capacitance: 1.5nF
footprint WCAP-CSGP_1206_H=0.8mm
pins: 1, 2